# EAGLE library part CP2104-F03-GM (library CP2104-F03-GM)
USB-to-UART 1-CH 576byte FIFO 3.3V 24-Pin QFN EP T/R
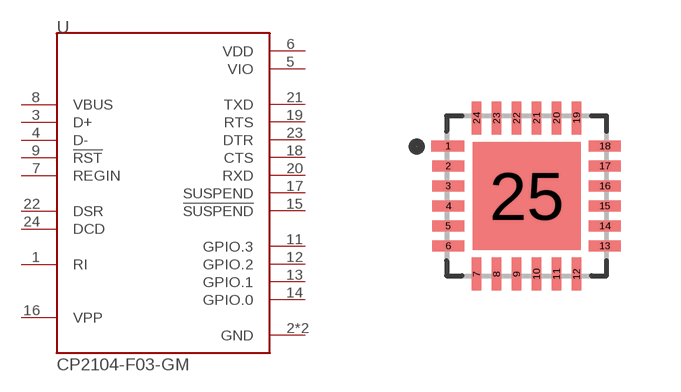
[diagram p0: symbol with the pads of QFN50P400X400X80-25N; footprint QFN50P400X400X80-25N]

Designator prefix U

## CP2104-F03-GM (Description: USB Bridge, USB to UART USB 2.0 UART Interface 24-QFN _4x4_; Digi-Key_Part_Number: 336-2008-5-ND; Digi-Key_Purchase_URL: https://www.digikey.nl/product-detail/en/silicon-labs/CP2104-F03-GM/336-2008-5-ND/2486177?utm_source=snapeda&utm_medium=aggregator&utm_campaign=symbol; MF: Silicon Labs; MP: CP2104-F03-GM; Package: QFN-24 Silicon Labs)  [QFN50P400X400X80-25N]
1  RI  in
2  GND  pwr
3  D+
4  D-
5  VIO  pwr
6  VDD  pwr
7  REGIN  in
8  VBUS  in
9  !RST  in
11  GPIO.3
12  GPIO.2
13  GPIO.1
14  GPIO.0
15  !SUSPEND  out
16  VPP  pas
17  SUSPEND  out
18  CTS  in
19  RTS  out
20  RXD  in
21  TXD  out
22  DSR  in
23  DTR  out
24  DCD  in
25  GND  pwr

## Footprint QFN50P400X400X80-25N (pad centres in mm)
smd 0.84 x 0.26: 1 -1.97,1.25
smd 0.82 x 0.26: 2 -1.955,0.75; 3 -1.955,0.25; 4 -1.955,-0.25; 5 -1.955,-0.75; 6 -1.955,-1.25; 13 1.955,-1.25; 14 1.955,-0.75; 15 1.955,-0.25; 16 1.955,0.25; 17 1.955,0.75; 18 1.955,1.25
smd 0.26 x 0.82: 7 -1.25,-1.955; 8 -0.75,-1.955; 9 -0.25,-1.955; 10 0.25,-1.955; 11 0.75,-1.955; 12 1.25,-1.955; 19 1.25,1.955; 20 0.75,1.955; 21 0.25,1.955; 22 -0.25,1.955; 23 -0.75,1.955; 24 -1.25,1.955
smd 2.7 x 2.7: 25 0,0